# EAGLE library part TPS61288 (library Bits_library_eagle)
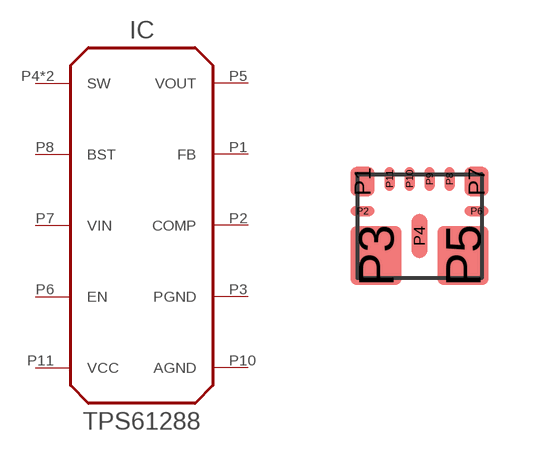
[diagram p76: symbol with the pads of VQFN-HR; footprint VQFN-HR]

Designator prefix IC

## TPS61288VQFN  [VQFN-HR]
P1  FB
P2  COMP
P3  PGND  pwr
P4  SW  pas
P5  VOUT  pwr
P6  EN
P7  VIN  pwr
P8  BST
P9  SW  pas
P10  AGND  pwr
P11  VCC  pwr

## Footprint VQFN-HR (pad centres in mm)
smd 0.6 x 0.725: P1 -1.425,1.363; P7 1.425,1.363
smd 0.6 x 0.25: P2 -1.425,0.625; P6 1.425,0.625
smd 1.275 x 1.475: P3 -1.087,-0.487; P5 1.087,-0.487
smd 0.4 x 1.1: P4 0,0
smd 0.25 x 0.6: P8 0.75,1.425; P9 0.25,1.425; P10 -0.25,1.425; P11 -0.75,1.425